# EAGLE library part PIC16F1829 (library SparkFun-IC-Microcontroller)
PIC16F1829-I/SS SparkFun Products SparkFun Touch Potentiometer <https://www.sparkfun.com/products/13144> (PRT-13144)
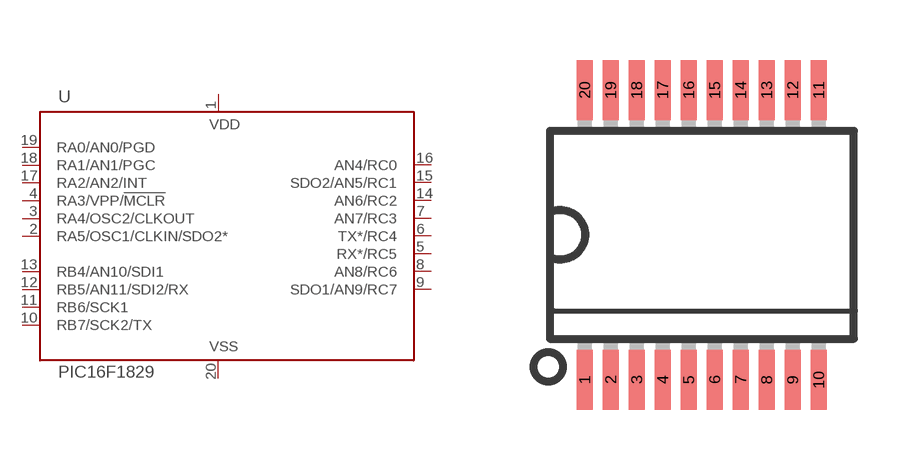
[diagram p27: symbol with the pads of SSOP20; footprint SSOP20]

Designator prefix -

## PIC16F1829 (PROD_ID: IC-12357; VALUE: PIC16F1829-I/SS)  [SSOP20]
1  VDD  pwr
2  RA5/OSC1/CLKIN/SDO2*
3  RA4/OSC2/CLKOUT
4  RA3/VPP/!MCLR  in
5  RX*/RC5
6  TX*/RC4
7  AN7/RC3
8  AN8/RC6
9  SDO1/AN9/RC7
10  RB7/SCK2/TX
11  RB6/SCK1
12  RB5/AN11/SDI2/RX
13  RB4/AN10/SDI1
14  AN6/RC2
15  SDO2/AN5/RC1
16  AN4/RC0
17  RA2/AN2/INT
18  RA1/AN1/PGC
19  RA0/AN0/PGD
20  VSS  pwr

## Footprint SSOP20 (pad centres in mm)
Shrink Small Outline Package package type SS
smd 0.4 x 1.5: 1 -2.925,-3.625; 2 -2.275,-3.625; 3 -1.625,-3.625; 4 -0.975,-3.625; 5 -0.325,-3.625; 6 0.325,-3.625; 7 0.975,-3.625; 8 1.625,-3.625; 9 2.275,-3.625; 10 2.925,-3.625; 11 2.925,3.625; 12 2.275,3.625; 13 1.625,3.625; 14 0.975,3.625; 15 0.325,3.625; 16 -0.325,3.625; 17 -0.975,3.625; 18 -1.625,3.625; 19 -2.275,3.625; 20 -2.925,3.625